# Altium schematic symbol library 1935268.SchLib: 1 symbol
Pins are listed as number, name and electrical type; pins without a type are passive.

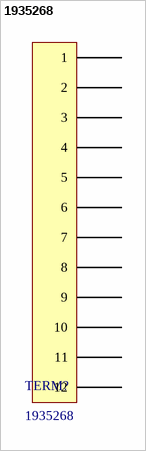
[diagram p0: symbol 1935268]

## 1935268
designator TERM?
TERM BLOCK PCB 12POS 5.0MM GREEN; Manufacturer: Phoenix Contact; Positions Per Level: 12; Pitch: 0.197" (5.00mm); Mating Orientation: Horizontal with Board; Wire Gauge: 12-26 AWG; Wire Termination: Screw; Torque - Screw: 0.35-0.4 Nm (3.1-3.5 Lb-In); Screw Thread: M2.6; Supplier 1: Digi-Key; Manufacturer Part Number: 1935268; RoHS: RoHS Compliant; Category: Connectors, Interconnects; Stock 1: 4448; Pricing 1: 1=2.2, 10=2.14, 50=2, 100=1.84, 250=1.7 (USD); Packaging: Bulk; Part Status: Active; Mounting Type: Through Hole; Features: Interlocking (Side); Color: Green; Operating Temperature: -; Housing Material: Polyamide (PA), Nylon; Contact Material - Plating: -; Clamp Material - Plating: -; Screw Material - Plating: -; ComponentLink1URL: https://media.digikey.com/pdf/Data%20Sheets/Phoenix%20Contact%20PDFs/1935268.pdf; ComponentLink1Description: https://media.digikey.com/pdf/Data%20Sheets/Phoenix%20Contact%20PDFs/1935268.pdf; Supplier Part Number 1: 277-1587-ND
pins: 1, 2, 3, 4, 5, 6, 7, 8, 9, 10, 11, 12